# EAGLE library part SM06B-GHS-TB (library connectors)
JST GH 6P Right Angle Header
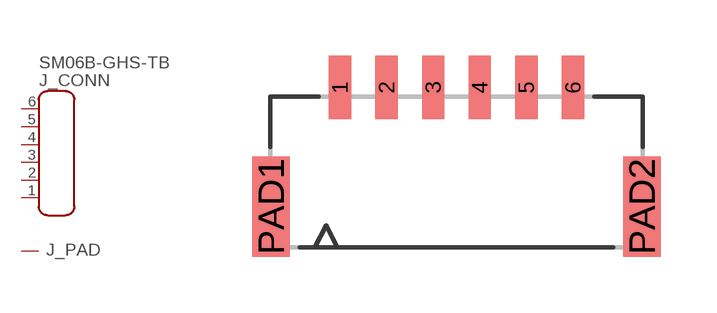
[diagram p11: symbol with the pads of SM06B-GHS-TB; footprint SM06B-GHS-TB]

Designator prefix J; gates _CONN=CONN6-1 _PAD=PAD

## SM06B-GHS-TB (MF: JST; MPN: SM06B-GHS-TB(LF)(SN); REVIEWED: NO; TESTED: NO)  [SM06B-GHS-TB]
1  _CONN:1
2  _CONN:2
3  _CONN:3
4  _CONN:4
5  _CONN:5
6  _CONN:6
PAD1  _PAD:PAD
PAD2  _PAD:PAD

## Footprint SM06B-GHS-TB (pad centres in mm)
smd 0.6 x 1.7: 1 -3.125,3.2; 2 -1.875,3.2; 3 -0.625,3.2; 4 0.625,3.2; 5 1.875,3.2; 6 3.125,3.2
smd 1 x 2.7: PAD1 -4.975,0; PAD2 4.975,0